# EAGLE library part DEBUG (library Transputer)
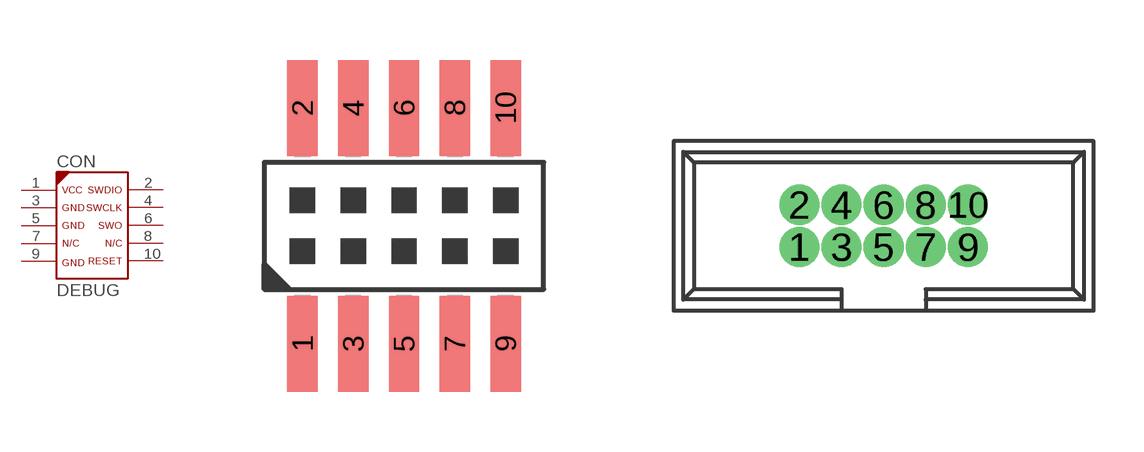
[diagram p8: symbol with the pads of DEBUG; footprints DEBUG, DEBUG-TH]

Designator prefix CON

## DEBUG  [DEBUG]
1  1  pas
2  2  pas
3  3  pas
4  4  pas
5  5  pas
6  6  pas
7  7  pas
8  8  pas
9  9  pas
10  10  pas

## DEBUG-TH  [DEBUG-TH]
Pads as for DEBUG

## Footprint DEBUG (pad centres in mm)
smd 0.76 x 2.4: 1 -2.54,-2.95; 2 -2.54,2.95; 3 -1.27,-2.95; 4 -1.27,2.95; 5 0,-2.95; 6 0,2.95; 7 1.27,-2.95; 8 1.27,2.95; 9 2.54,-2.95; 10 2.54,2.95

## Footprint DEBUG-TH (pad centres in mm)
drill 0.7 pad 1.016: 1 -2.54,-0.635; 2 -2.54,0.635; 3 -1.27,-0.635; 4 -1.27,0.635; 5 0,-0.635; 6 0,0.635; 7 1.27,-0.635; 8 1.27,0.635; 9 2.54,-0.635; 10 2.54,0.635